# Altium footprint library PcbLib1.PcbLib: 259 footprints (part 16 of 17)
Each footprint in its own frame and in the unit in brackets; x right, y up, seen from the top. Pads: shape width x height; smd on the part's side, far side on the other; paste and mask are expansions set on the pad; w line width, h text height; cw(c..) or ccw(c..) is an arc to the next point about the centre after c.
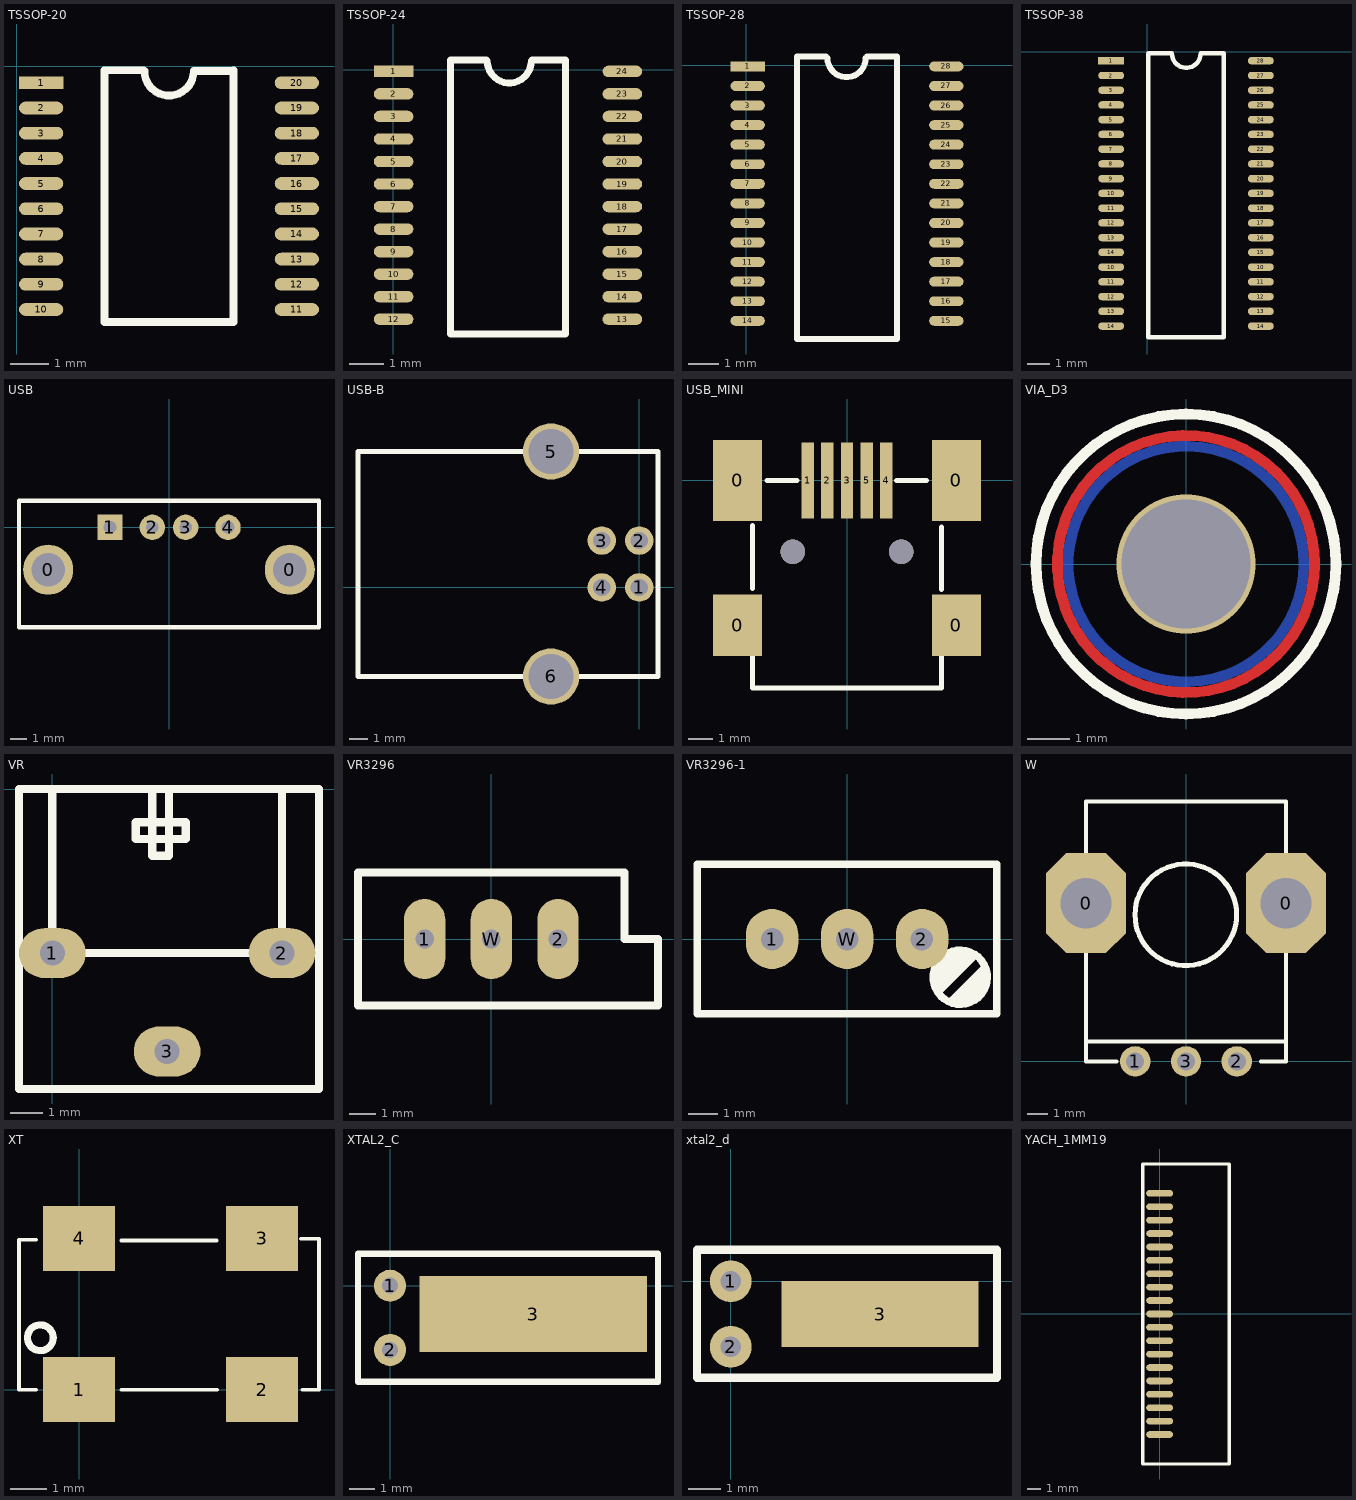
[diagram p15: the footprints below, top view; thin cyan lines are the x and y axes]

## TSSOP-20 [mm]
pads (20):
  rect 1.143x0.33 smd: 1(0.635,-0.432)
  oval 1.143x0.33 smd: 2(0.635,-1.082) 3(0.635,-1.732) 4(0.635,-2.382) 5(0.635,-3.032) 6(0.635,-3.682) 7(0.635,-4.332) 8(0.635,-4.982) 9(0.635,-5.632) 10(0.635,-6.282) 11(7.235,-6.282) 12(7.235,-5.632) 13(7.235,-4.982) 14(7.235,-4.332) 15(7.235,-3.682) 16(7.235,-3.032) 17(7.235,-2.382) 18(7.235,-1.732) 19(7.235,-1.082) 20(7.235,-0.432)
Top Overlay:
  lines w0.2: 3.282,-0.107 2.27,-0.107 2.27,-6.607 5.6,-6.607 5.6,-0.107 ; 3.302,-0.127 ccw(c3.937,-0.127) 4.572,-0.127 5.58,-0.127

## TSSOP-24 [mm]
pads (24):
  rect 1.143x0.33 smd: 1(0.016,-0.046)
  oval 1.143x0.33 smd: 2(0.016,-0.696) 3(0.016,-1.346) 4(0.016,-1.996) 5(0.016,-2.646) 6(0.016,-3.296) 7(0.016,-3.946) 8(0.016,-4.596) 9(0.016,-5.246) 10(0.016,-5.896) 11(0.016,-6.546) 12(0.016,-7.196) 13(6.616,-7.196) 14(6.616,-6.546) 15(6.616,-5.896) 16(6.616,-5.246) 17(6.616,-4.596) 18(6.616,-3.946) 19(6.616,-3.296) 20(6.616,-2.646) 21(6.616,-1.996) 22(6.616,-1.346) 23(6.616,-0.696) 24(6.616,-0.046)
Top Overlay:
  lines w0.2: 2.692,0.279 1.651,0.279 1.651,-7.62 4.981,-7.62 4.981,0.279 4.013,0.279 ; 2.718,0.254 ccw(c3.353,0.254) 3.988,0.254

## TSSOP-28 [mm]
pads (28):
  rect 1.143x0.33 smd: 1(0.041,-0.046)
  oval 1.143x0.33 smd: 2(0.041,-0.696) 3(0.041,-1.346) 4(0.041,-1.996) 5(0.041,-2.646) 6(0.041,-3.296) 7(0.041,-3.946) 8(0.041,-4.596) 9(0.041,-5.246) 10(0.041,-5.896) 11(0.041,-6.546) 12(0.041,-7.196) 13(0.041,-7.846) 14(0.041,-8.496) 15(6.641,-8.496) 16(6.641,-7.846) 17(6.641,-7.196) 18(6.641,-6.546) 19(6.641,-5.896) 20(6.641,-5.246) 21(6.641,-4.596) 22(6.641,-3.946) 23(6.641,-3.296) 24(6.641,-2.646) 25(6.641,-1.996) 26(6.641,-1.346) 27(6.641,-0.696) 28(6.641,-0.046)
Top Overlay:
  lines w0.2: 2.642,0.279 1.676,0.279 1.676,-9.1 5.006,-9.1 5.006,0.279 4.013,0.279 ; 2.692,0.229 ccw(c3.327,0.229) 3.962,0.229

## TSSOP-38 [mm]
pads (38):
  rect 1.143x0.33 smd: 1(-1.584,-0.401)
  oval 1.143x0.33 smd: 2(-1.584,-1.051) 3(-1.584,-1.701) 4(-1.584,-2.351) 5(-1.584,-3.001) 6(-1.584,-3.651) 7(-1.584,-4.301) 8(-1.584,-4.951) 9(-1.584,-5.601) 10(-1.584,-9.501) 10(-1.584,-6.251) 10(5.016,-9.501) 11(-1.584,-10.151) 11(-1.584,-6.901) 11(5.016,-10.151) 12(-1.584,-10.801) 12(-1.584,-7.551) 12(5.016,-10.801) 13(-1.584,-11.451) 13(-1.584,-8.201) 13(5.016,-11.451) 14(-1.584,-12.101) 14(-1.584,-8.851) 14(5.016,-12.101) 15(5.016,-8.851) 16(5.016,-8.201) 17(5.016,-7.551) 18(5.016,-6.901) 19(5.016,-6.251) 20(5.016,-5.601) 21(5.016,-4.951) 22(5.016,-4.301) 23(5.016,-3.651) 24(5.016,-3.001) 25(5.016,-2.351) 26(5.016,-1.701) 27(5.016,-1.051) 28(5.016,-0.401)
Top Overlay:
  lines w0.2: 0.051,-12.6 0.051,-0.076 1.092,-0.076 ccw(c1.727,-0.076) 2.362,-0.076 3.381,-0.076 3.381,-12.6 0.051,-12.6

## USB [mm]
pads (6):
  round 3 hole 2: 0(-7.25,-2.54) 0(7.25,-2.54)
  rect 1.524x1.524 hole 0.762: 1(-3.54,0)
  round 1.524 hole 0.762: 2(-1,0) 3(1,0) 4(3.54,0)
Top Overlay:
  lines w0.254: -9,-6 9,-6 9,1.6 -9,1.6 -9,-6

## USB-B [mm]
pads (6):
  round 1.524 hole 0.92: 1(0,0) 2(0,2.5) 3(-2,2.5) 4(-2,0)
  round 3 hole 2.4: 5(-4.7,7.25) 6(-4.7,-4.75)
Top Overlay:
  lines w0.254: -15,-4.75 -15,7.25 1,7.25 1,-4.75 -15,-4.75

## USB_MINI [mm]
pads (9):
  rect 2x2.5 smd: 0(-4.45,-5.9) 0(4.45,-5.9)
  rect 2x3.3 smd: 0(-4.45,0) 0(4.45,0)
  rect 0.5x3.1 smd: 1(-1.6,0) 2(-0.8,0) 3(0,0) 4(1.6,0) 5(0.8,0)
via -2.2,-2.9 diameter 1 hole 1
via 2.2,-2.9 diameter 1 hole 1
Top Overlay:
  lines w0.2: -3.85,-7.16 -3.85,-8.45 3.85,-8.45 3.85,-7.19 ; -3.84,-4.4 -3.84,-1.84 ; -3.25,-0.01 -2.04,-0.01 ; 2.02,-0.01 3.23,-0.01 ; 3.85,-4.43 3.85,-1.9

## VIA_D3 [mm]
via 0,0 diameter 3.302 hole 3.048
Top Layer:
  circle w0.254: c0,0 r3.048
Bottom Layer:
  circle w0.254: c0,0 r2.794
Top Overlay:
  circle w0.254: c0,0 r3.556

## VR [mil]
pads (3):
  oval 80x60 hole 30: 1(0,-196.85) 2(275.59,-196.85) 3(137.8,-314.96)
Top Overlay:
  lines w10: 120,0 120,-80 140,-80 140,0 ; 0,0 -40,0 -40,-360 320,-360 320,-300 320,0 275.59,0 ; 0,0 0,-196.85 275.59,-196.85 275.59,0 ; 0,0 275.59,0 ; 100,-60 100,-40 160,-40 160,-60 100,-60

## VR3296 [mil]
pads (3):
  oval 62x120 hole 28: 1(-100,0) 2(100,0) W(0,0)
Top Overlay:
  lines w12: -200,-100 250,-100 250,0 200,0 200,100 -200,100 -200,-100

## VR3296-1 [mil]
pads (3):
  oval 70x80 hole 30: 1(-100,0) 2(100,0) W(0,0)
Top Overlay:
  circle w10: c151,-51 r36.06
  lines w10: 157.76,-74.24 164.24,-74.24 171,-81 ; 171,-21 151,-41 121,-71 121,-61 161,-21 141,-21 ; 172.88,-79.12 171,-81 ; 181,-41 141,-81 151,-81 ; 131,-31 141,-31 ; 131,-31 141,-21 ; 131,-31 121,-41 121,-51 141,-31 ; 141,-31 151,-31 141,-21 ; 141,-31 141,-21 ; 151,-81 166.82,-65.18 172.88,-65.18 187.06,-51 187.06,-47.06 172.88,-61.23 170.77,-61.23 171,-61.47 171,-81 ; 151,-81 171,-81 ; -200,-100 -200,100 200,100 200,-100 0,-100 -200,-100

## W [mm]
pads (5):
  oct 4x5 hole 2.54: 0(-5,7.91) 0(5,7.91)
  round 1.524 hole 0.9: 1(-2.54,0) 2(2.54,0) 3(0,0)
Top Overlay:
  circle w0.254: c-0.01,7.33 r2.54
  lines w0.2: -5,1 5,1 ; -3.47,0 -5,0 -5,13 5,13 5,0 3.75,0

## XT [mm]
pads (4):
  rect 2x1.8 smd: 1(0,0) 2(5.08,0) 3(5.08,4.2) 4(0,4.2)
Top Overlay:
  circle w0.2: c-1.077,1.44 r0.357
  lines w0.1: -1.19,0 -1.67,0 -1.67,4.16 -1.19,4.16 ; 1.17,0 3.83,0 ; 1.17,4.14 3.82,4.14 ; 6.16,4.19 6.66,4.19 6.66,0 6.19,0

## XTAL2_C [mm]
pads (3):
  round 1.27 hole 0.635: 1(0,0) 2(0,-2.54)
  rect 9x3 smd: 3(5.67,-1.12)
Top Overlay:
  lines w0.254: 10.61,-3.55 10.61,1.27 ; 10.61,-3.81 10.61,1.27 ; 10.61,-3.81 10.61,-3.81 ; 10.61,-3.81 -1.27,-3.81 -1.27,1.27 10.61,1.27

## xtal2_d [mm]
pads (3):
  round 1.27 hole 0.635: 1(0,0) 2(0,-2)
  rect 6x2 smd: 3(4.55,-1)
Top Overlay:
  lines w0.254: -1.03,-2.94 8.11,-2.94 8.11,0.96 -1.03,0.96 -1.03,-2.94

## YACH_1MM19 [mm]
pads (19):
  oval 2x0.5 smd: 1(0,9) 2(0,8) 3(0,7) 4(0,6) 5(0,5) 6(0,4) 7(0,3) 8(0,2) 9(0,1) 10(0,0) 11(0,-1) 12(0,-2) 13(0,-3) 14(0,-4) 15(0,-5) 16(0,-6) 17(0,-7) 18(0,-8) 19(0,-9)
Top Overlay:
  lines w0.254: -1.25,-11.2 5.19,-11.2 5.19,11.19 -1.25,11.19 -1.25,-11.2